# EAGLE library part ACS712 (library EYR_Sensores)
Sensor de corriente ACS712
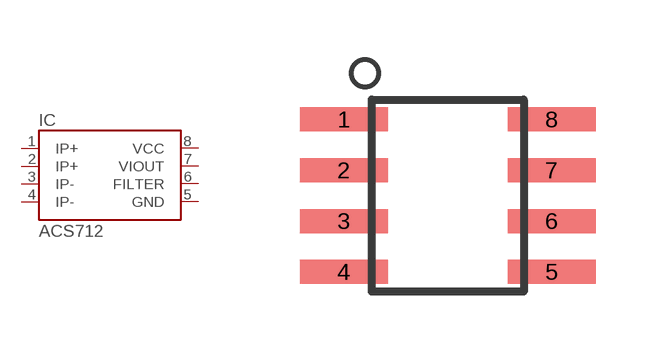
[diagram p0: symbol with the pads of SO-08; footprint SO-08]

Designator prefix IC

## ACS712  [SO-08]
1  IP+
2  IP+
3  IP-
4  IP-
5  GND  pwr
6  FILTER
7  VIOUT
8  VCC  pwr

## Footprint SO-08 (pad centres in mm)
Small Outline Narrow Plastic Gull Wing 150-mil body, package type SN
smd 2.2 x 0.6: 1 -2.6,1.905; 2 -2.6,0.635; 3 -2.6,-0.635; 4 -2.6,-1.905; 5 2.6,-1.905; 6 2.6,-0.635; 7 2.6,0.635; 8 2.6,1.905